# Altium schematic symbol library EM8500-A001-LF24B.SchLib: 2 symbols
Pins are listed as number, name and electrical type; pins without a type are passive.

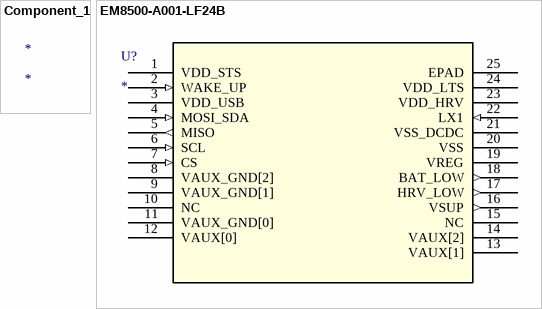
[diagram p0: symbols Component_1 to EM8500-A001-LF24B]

## Component_1
designator *

## EM8500-A001-LF24B
designator U?
No Description Available; Mfr_Name: EM Microelectronic-Marin; Digi-Key_Part_Number_3: 2651-EM8500-A001-LF24B+DKR-ND; Digi-Key_Part_Number_2: 2651-EM8500-A001-LF24B+CT-ND; Digi-Key_Part_Number_1: 2651-EM8500-A001-LF24B+TR-ND; RefDes: RefDes; Type: Type
footprint QFN24_4X4_MAR
pins: 1 VDD_STS (power), 2 WAKE_UP (in), 3 VDD_USB (power), 4 MOSI_SDA (in), 5 MISO (out), 6 SCL (in), 7 CS (in), 8 VAUX_GND[2] (power), 9 VAUX_GND[1] (power), 10 NC, 11 VAUX_GND[0] (power), 12 VAUX[0] (power), 13 VAUX[1] (power), 14 VAUX[2] (power), 15 NC, 16 VSUP (out), 17 HRV_LOW (out), 18 BAT_LOW (out), 19 VREG (power), 20 VSS (power), 21 VSS_DCDC (power), 22 LX1 (in), 23 VDD_HRV (power), 24 VDD_LTS (power), 25 EPAD